# EAGLE library part SW_JUMP_7 (library Misaka-Connector)
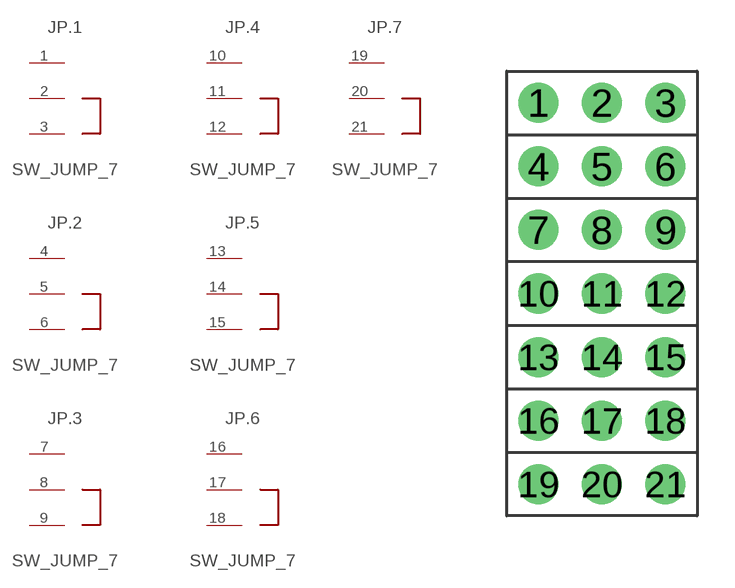
[diagram p3: symbol with the pads of PH3X07; footprint PH3X07]

Designator prefix JP; gates .1=SWITCH_JUMPER .2=SWITCH_JUMPER .3=SWITCH_JUMPER .4=SWITCH_JUMPER .5=SWITCH_JUMPER .6=SWITCH_JUMPER .7=SWITCH_JUMPER

## SW_JUMP_7  [PH3X07]
1  .1:1
2  .1:2
3  .1:3
4  .2:1
5  .2:2
6  .2:3
7  .3:1
8  .3:2
9  .3:3
10  .4:1
11  .4:2
12  .4:3
13  .5:1
14  .5:2
15  .5:3
16  .6:1
17  .6:2
18  .6:3
19  .7:1
20  .7:2
21  .7:3

## Footprint PH3X07 (pad centres in mm)
drill 1 pad 1.6: 1 -2.54,7.62; 2 0,7.62; 3 2.54,7.62; 4 -2.54,5.08; 5 0,5.08; 6 2.54,5.08; 7 -2.54,2.54; 8 0,2.54; 9 2.54,2.54; 10 -2.54,0; 11 0,0; 12 2.54,0; 13 -2.54,-2.54; 14 0,-2.54; 15 2.54,-2.54; 16 -2.54,-5.08; 17 0,-5.08; 18 2.54,-5.08; 19 -2.54,-7.62; 20 0,-7.62; 21 2.54,-7.62